# Altium schematic symbol library Schlib1.SchLib: 7 symbols
Pins are listed as number, name and electrical type; pins without a type are passive.

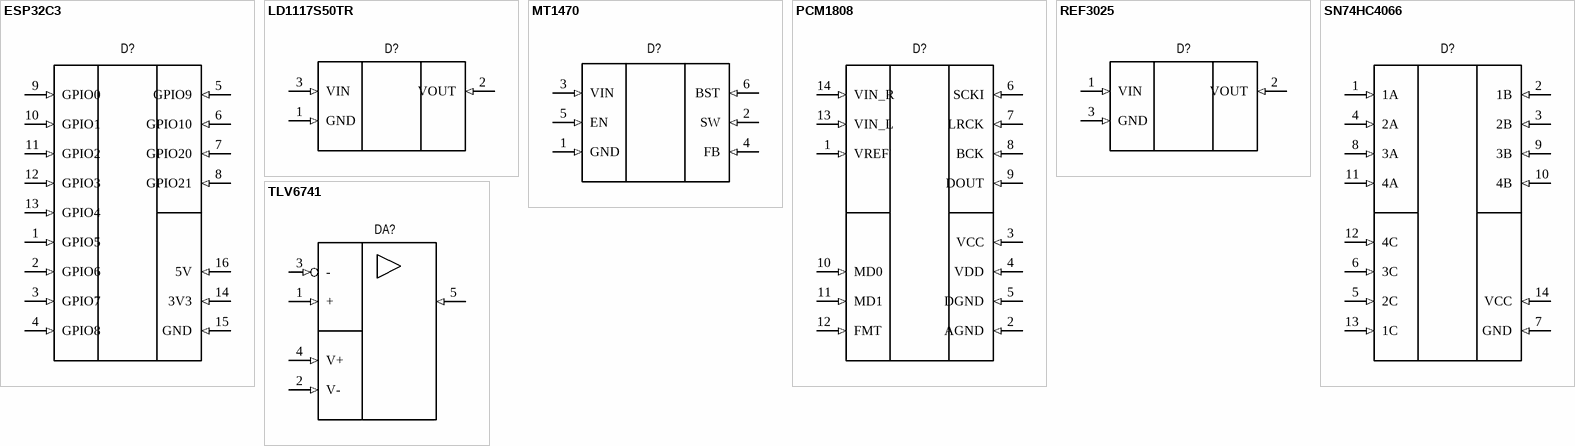
[diagram p0: symbols ESP32C3 to TLV6741]

## ESP32C3
designator D?, comment Обозначение при заказе  (value not drawn)
Описание свойств компонента
pins: 1 GPIO5 (in) "Информационный вход Х6", 2 GPIO6 (in) "Информационный вход Х6", 3 GPIO7 (in) "Информационный вход Х6", 4 GPIO8 (in) "Информационный вход Х6", 5 GPIO9 (in) "Информационный вход Х6", 6 GPIO10 (in) "Информационный вход Х6", 7 GPIO20 (in) "Информационный вход Х6", 8 GPIO21 (in) "Информационный вход Х6", 9 GPIO0 (in) "Информационный вход Х6", 10 GPIO1 (in) "Информационный вход Х6", 11 GPIO2 (in) "Информационный вход Х6", 12 GPIO3 (in) "Информационный вход Х6", 13 GPIO4 (in) "Информационный вход Х6", 14 3V3 (in) "Информационный вход Х6", 15 GND (in) "Информационный вход Х6", 16 5V (in) "Информационный вход Х6"

## LD1117S50TR
designator D?, comment Обозначение при заказе  (value not drawn)
Описание свойств компонента
footprint SOT223
pins: 1 GND (in) "Информационный вход Х6", 2 VOUT (in) "Информационный вход Х6", 3 VIN (in) "Информационный вход Х6"

## MT1470
designator D?, comment Обозначение при заказе  (value not drawn)
Описание свойств компонента
footprint SOT23-6
pins: 1 GND (in) "Информационный вход Х6", 2 SW (in) "Информационный вход Х6", 3 VIN (in) "Информационный вход Х6", 4 FB (in) "Информационный вход Х6", 5 EN (in) "Информационный вход Х6", 6 BST (in) "Информационный вход Х6"

## PCM1808
designator D?, comment Обозначение при заказе  (value not drawn)
Описание свойств компонента
footprint SO-14 (SOIC, 14-Leads, Body 8,65x3,90mm, Pitch 1,27mm, IPC Medium Density)
pins: 1 VREF (in) "Информационный вход Х6", 2 AGND (in) "Информационный вход Х6", 3 VCC (in) "Информационный вход Х6", 4 VDD (in) "Информационный вход Х6", 5 DGND (in) "Информационный вход Х6", 6 SCKI (in) "Информационный вход Х6", 7 LRCK (in) "Информационный вход Х6", 8 BCK (in) "Информационный вход Х6", 9 DOUT (in) "Информационный вход Х6", 10 MD0 (in) "Информационный вход Х6", 11 MD1 (in) "Информационный вход Х6", 12 FMT (in) "Информационный вход Х6", 13 VIN_L (in) "Информационный вход Х6", 14 VIN_R (in) "Информационный вход Х6"

## REF3025
designator D?, comment Обозначение при заказе  (value not drawn)
Описание свойств компонента
footprint SOT23-3(1-3-2) (SOT23, 3 pin)
pins: 1 VIN (in) "Информационный вход Х6", 2 VOUT (in) "Информационный вход Х6", 3 GND (in) "Информационный вход Х6"

## SN74HC4066
designator D?, comment Обозначение при заказе  (value not drawn)
Описание свойств компонента
footprint TSSOP14 (TSOP, 14-Leads, Body 5,00x4,40mm, Pitch 0,65mm, IPC Medium Density)
pins: 1 1A (in) "Информационный вход Х6", 2 1B (in) "Информационный вход Х6", 3 2B (in) "Информационный вход Х6", 4 2A (in) "Информационный вход Х6", 5 2C (in) "Информационный вход Х6", 6 3C (in) "Информационный вход Х6", 7 GND (in) "Информационный вход Х6", 8 3A (in) "Информационный вход Х6", 9 3B (in) "Информационный вход Х6", 10 4B (in) "Информационный вход Х6", 11 4A (in) "Информационный вход Х6", 12 4C (in) "Информационный вход Х6", 13 1C (in) "Информационный вход Х6", 14 VCC (in) "Информационный вход Х6"

## TLV6741
designator DA?, comment Обозначение при заказе  (value not drawn)
Описание свойств компонента
footprint TSOT23-5L (SOT23, 5-Leads, Body 2,95x2,65mm, Pitch 0,95mm, IPC Medium Density)
pins: 1 + (in) "Информационный вход Х6", 2 V- (in) "Информационный вход Х6", 3 - (in) "Информационный вход Х6", 4 V+ (in) "Информационный вход Х6", 5 (in) "Информационный вход Х6"